# Altium footprint library Bobinita.PcbLib: 1 footprints
Each footprint in its own frame and in the unit in brackets; x right, y up, seen from the top. Pads: shape width x height; smd on the part's side, far side on the other; paste and mask are expansions set on the pad; w line width, h text height; cw(c..) or ccw(c..) is an arc to the next point about the centre after c.
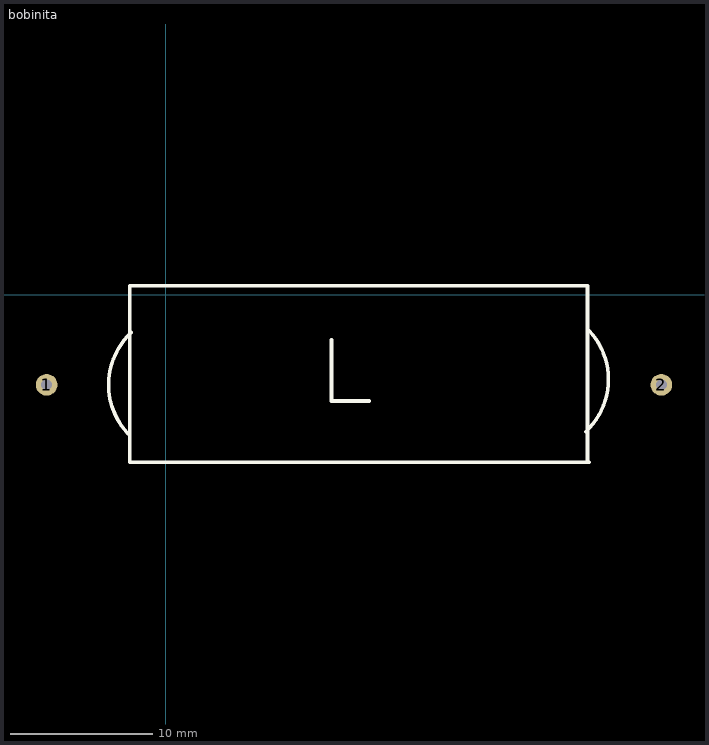
[diagram p0: the footprint, top view; thin cyan lines are the x and y axes]

## bobinita [mil]
pads (2):
  round 60 hole 30: 1(-330,-250) 2(1375,-250)
Top Overlay:
  lines w10: -105,-385 cw(c40,-250) -95,-105 ; 460,-125 460,-295 565,-295 ; 1165,-380 ccw(c1030,-235) 1175,-100 ; -100,-465 1175,-465 1170,-460 1170,25 -100,25 -100,-465